# Altium schematic symbol library ATSAMDA1E15B-ABT.SchLib: 1 symbol
Pins are listed as number, name and electrical type; pins without a type are passive.

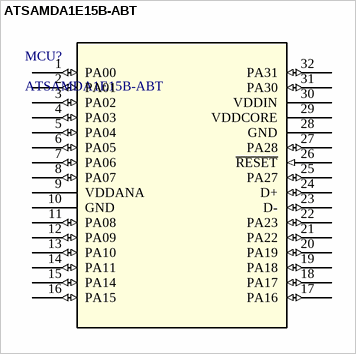
[diagram p0: symbol ATSAMDA1E15B-ABT]

## ATSAMDA1E15B-ABT
designator MCU?
ARM® Cortex®-M0+ SAM DA1, Functional Safety (FuSa) Microcontroller IC 32-Bit Single-Core 48MHz 32KB (32K x 8) FLASH 32-TQFP (7x7); Mfr_Name: Microchip; Copyright: Copyright (C) 2023 Ultra Librarian. All rights reserved.; Manufacturer_Part_Number: ATSAMDA1E15B-ABT; RefDes: RefDes; Type: DEV; Supplier 1: Mouser; Supplier Part Number 1: 556-ATSAMDA1E15B-ABT
footprint TQFP32_MC_MCH-M
pins: 1 PA00 (io), 2 PA01 (io), 3 PA02 (io), 4 PA03 (io), 5 PA04 (io), 6 PA05 (io), 7 PA06 (io), 8 PA07 (io), 9 VDDANA (power), 10 GND (power), 11 PA08 (io), 12 PA09 (io), 13 PA10 (io), 14 PA11 (io), 15 PA14 (io), 16 PA15 (io), 17 PA16 (io), 18 PA17 (io), 19 PA18 (io), 20 PA19 (io), 21 PA22 (io), 22 PA23 (io), 23 D- (io), 24 D+ (io), 25 PA27 (io), 26 ~{RESET} (in), 27 PA28 (io), 28 GND (power), 29 VDDCORE (power), 30 VDDIN (power), 31 PA30 (io), 32 PA31 (io)